# Altium footprint library R_SQP500.PcbLib: 1 footprints
Each footprint in its own frame and in the unit in brackets; x right, y up, seen from the top. Pads: shape width x height; smd on the part's side, far side on the other; paste and mask are expansions set on the pad; w line width, h text height; cw(c..) or ccw(c..) is an arc to the next point about the centre after c.
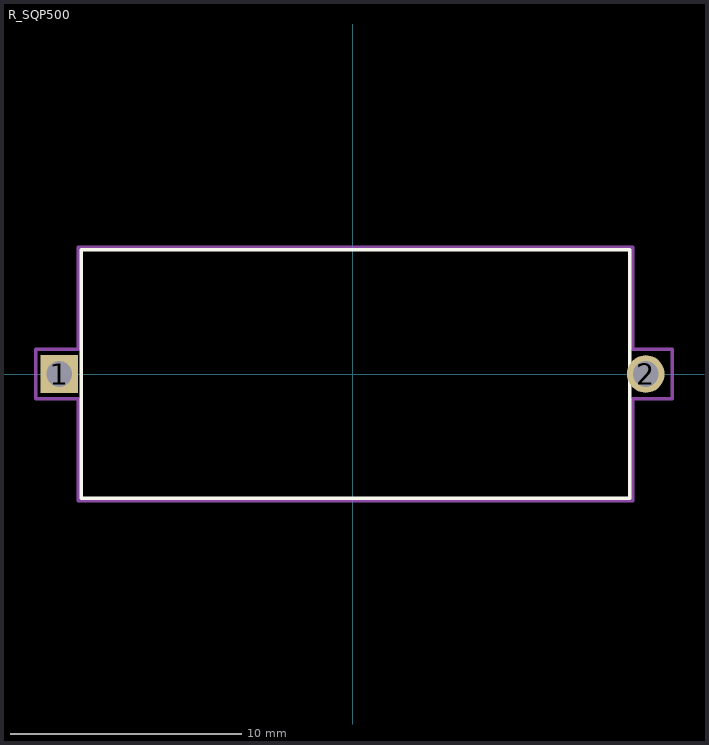
[diagram p0: the footprint, top view; thin cyan lines are the x and y axes]

## R_SQP500 [mil] "5W power resistor"
pads (2):
  rect 64x64 / inner round 60 / far side rect 64x64 hole 44: 1(-500,0)
  round 64 / inner round 60 / far side round 64 hole 44: 2(500,0)
Top Overlay:
  lines w6: -462.5,-211.5 -462.5,211.5 472.5,211.5 472.5,-211.5 -462.5,-211.5
Mechanical 15:
  lines w6: -540,-42 -467.5,-42 -467.5,-216.5 477.5,-216.5 477.5,-42 545,-42 545,42 477.5,42 477.5,216.5 -467.5,216.5 -467.5,42 -540,42 -540,-42
3D body "User Library-SQP-5W.STEP": height 412.6, standoff -48.43, extent -519.68,-190.94 519.69,190.95